# EAGLE library part MICROSD-BREAKOUT (library SparkFun-Boards)
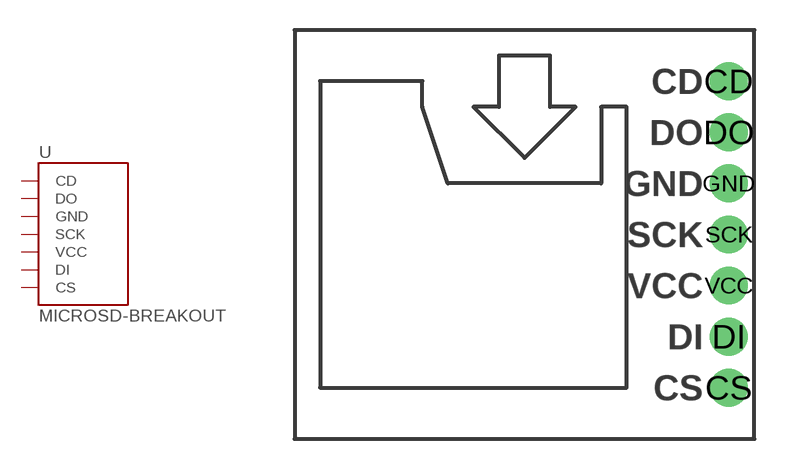
[diagram p28: symbol with the pads of MICROSD-BREAKOUT; footprint MICROSD-BREAKOUT]

Designator prefix U

## MICROSD-BREAKOUT  [MICROSD-BREAKOUT]
CD  CD
CS  CS
DI  DI
DO  DO
GND  GND  pwr
SCK  SCK
VCC  VCC

## Footprint MICROSD-BREAKOUT (pad centres in mm)
drill 1.118 pad 1.88: CD 12.7,8.89; CS 12.7,-6.35; DI 12.7,-3.81; DO 12.7,6.35; GND 12.7,3.81; SCK 12.7,1.27; VCC 12.7,-1.27